# Altium footprint library ThreePhaseMLI.PcbLib: 17 footprints (part 1 of 2)
Each footprint in its own frame and in the unit in brackets; x right, y up, seen from the top. Pads: shape width x height; smd on the part's side, far side on the other; paste and mask are expansions set on the pad; w line width, h text height; cw(c..) or ccw(c..) is an arc to the next point about the centre after c.
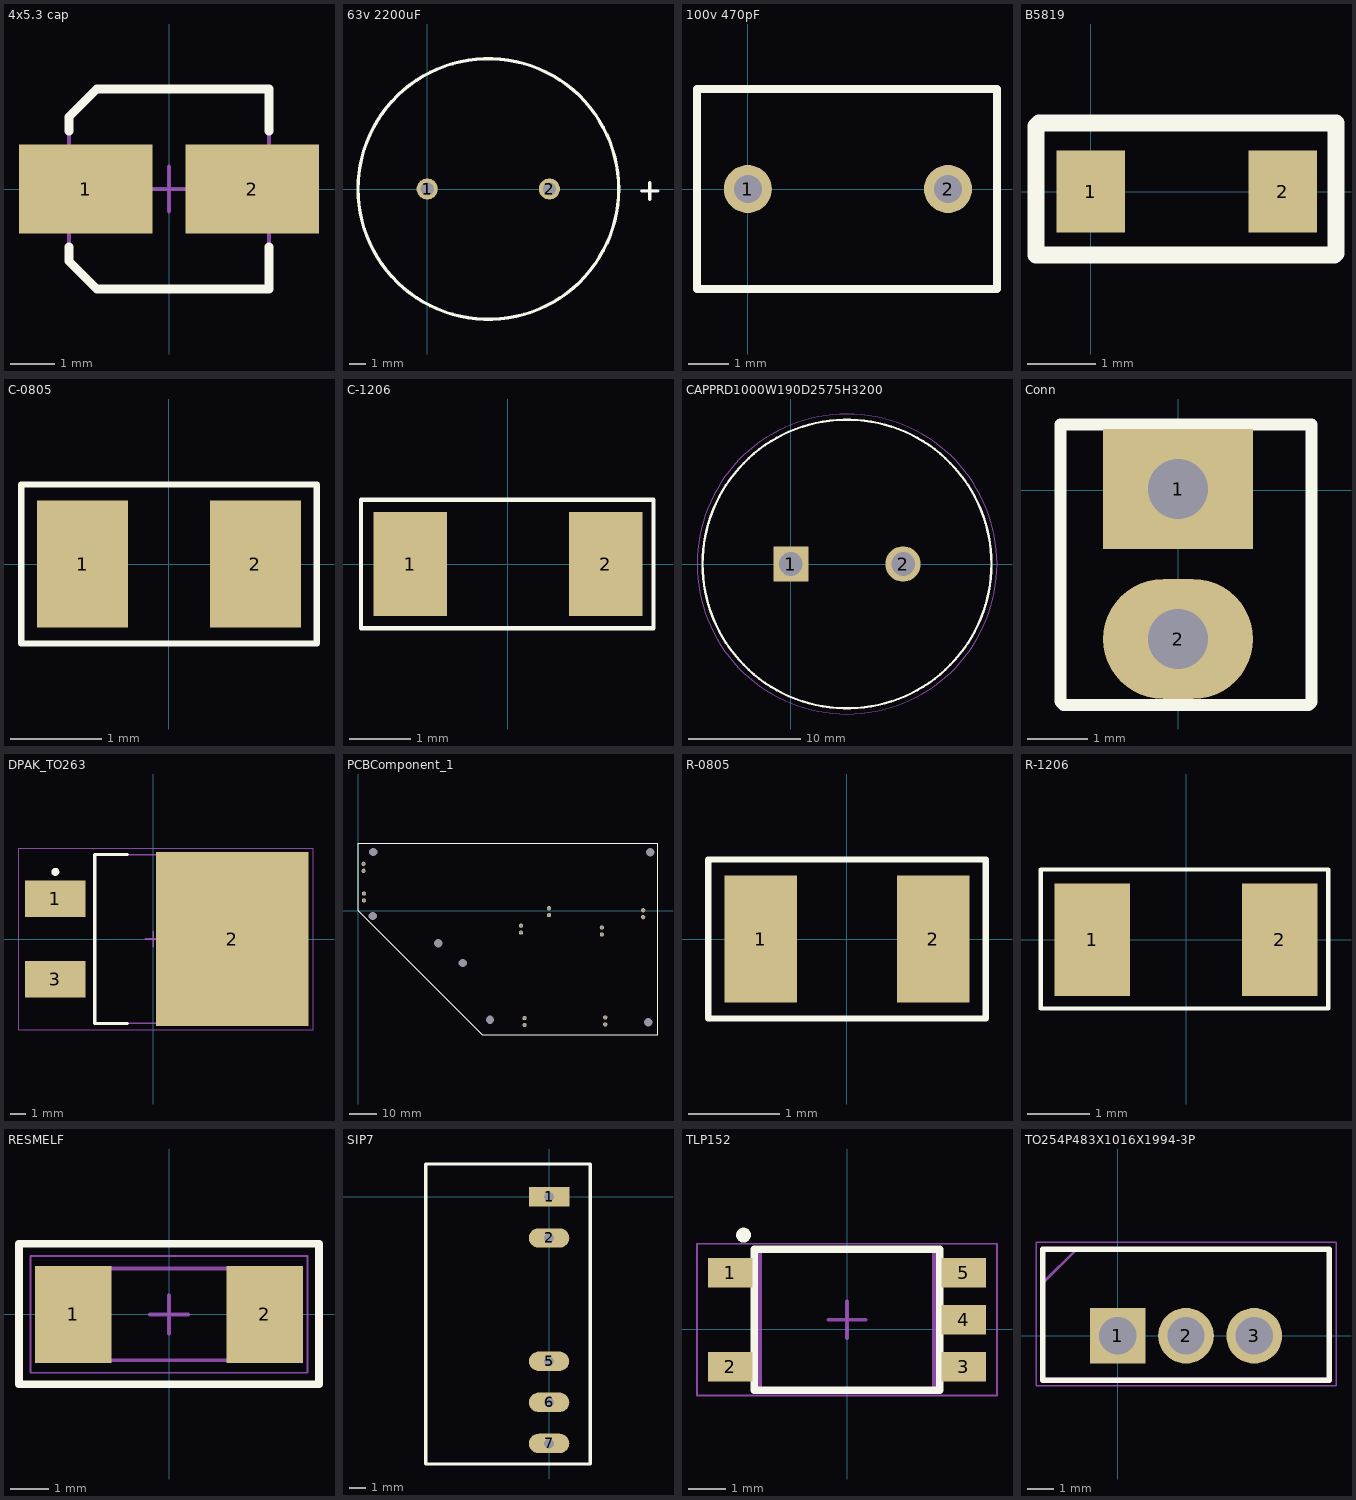
[diagram p0: the footprints below, top view; thin cyan lines are the x and y axes]

## 4x5.3 cap [mm]
height 5.5
pads (2):
  rect 3x2 smd: 1(-1.875,0) 2(1.875,0)
Top Overlay:
  lines w0.2: -2.25,-1.3 -2.25,-1.625 -1.625,-2.25 2.25,-2.25 2.25,-1.3 ; -2.25,1.3 -2.25,1.625 -1.625,2.25 2.25,2.25 2.25,1.3
Assembly Top:
  lines w0.1: -2.25,-1.625 -1.625,-2.25 2.25,-2.25 2.25,2.25 -1.625,2.25 -2.25,1.625 -2.25,-1.625
Courtyard Top:
  lines w0.1: -0.5,0 0.5,0 ; 0,-0.5 0,0.5
3D body "User Library-4x5_4.step": height 5.71, standoff 0.01, extent -2.633,-2.15 2.667,2.15

## 63v 2200uF [mm]
pads (2):
  round 1.3 hole 0.8: 1(0,0) 2(7.5,0)
Top Overlay:
  circle w0.2: c3.75,0 r8
  lines w0.2: 13.147,-0.127 14.163,-0.127 ; 13.655,-0.635 13.655,0.381
3D body "User Library-CE_R300_D650_H1000.step": height 26.11, standoff -2.79, extent -4.44,-8.25 12.06,8.249

## 100v 470pF [mm]
pads (2):
  round 1.2 hole 0.7: 1(0,0) 2(5,0)
Top Overlay:
  lines w0.2: -1.27,-2.5 0,-2.5 5,-2.5 6.223,-2.5 6.223,2.5 5,2.5 0,2.5 -1.27,2.5 -1.27,-2.5
3D body "User Library-CPLP5mm5v4.step": height 7, standoff -2.6, extent -1.06,-2.7 6.14,2.7

## B5819 [mm]
pads (2):
  rect 1x1.2 smd: 1(0,0) 2(2.8,0)
Top Overlay:
  lines w0.254: -0.8,-0.925 -0.8,0.95 -0.75,1 3.575,1 3.575,-0.9 3.55,-0.925 -0.8,-0.925
3D body "CircuitWorks-SOD123.step": height 1.28, standoff 0.01, extent -0.45,-0.725 3.25,0.875

## C-0805 [mm]
pads (2):
  rect 1x1.4 smd: 1(-0.95,0) 2(0.95,0)
Top Overlay:
  lines w0.07: -1.625,-0.875 -0.391,-0.875 0.416,-0.875 1.625,-0.875 1.625,0.875 -1.625,0.875 -1.625,0.413 -1.625,-0.875
3D body "User Library-CAPC2013X10.STEP": height 1.01, standoff 0.01, extent -1,-0.625 1,0.625

## C-1206 [mm]
pads (2):
  rect 1.2x1.7 smd: 1(-1.6,0) 2(1.6,0)
Top Overlay:
  lines w0.07: -2.4,-1.05 -2.4,1.05 2.375,1.05 2.375,0.692 2.375,0.556 2.375,-0.531 2.375,-1.05 -2.4,-1.05
3D body "User Library-CAPC3216X10.STEP": height 1, standoff 0, extent -1.6,-0.8 1.6,0.8

## CAPPRD1000W190D2575H3200 [mm]
pads (2):
  rect 3.15x3.15 hole 2.1: 1(0,0)
  round 3.15 hole 2.1: 2(10,0)
Top Overlay:
  circle w0.2: c5,0 r12.875
Mechanical 13:
  circle w0.1: c5,0 r12.875
Mechanical 15:
  circle w0.05: c5,0 r13.375
3D body "LGW2E391MELA30.stp": height 32, standoff -10, extent -8.25,-13.246 18.25,13.246

## Conn [mm]
pads (2):
  rect 2.5x2 hole 1: 1(0,0.025)
  oval 2.5x2 hole 1: 2(0,-2.475)
Top Overlay:
  lines w0.2: -1.965,-3.52 -1.91,-3.575 2.175,-3.575 2.225,-3.525 2.225,1.1 -1.965,1.1 -1.965,-3.52
3D body: height 1.4, standoff -1.4, extent -5,-0.775 -5,-0.775
3D body "User Library-Header1x2.STEP": height 8.15, standoff -2.83, extent -1.24,-3.74 1.3,1.34

## DPAK_TO263 [mm] "D2-PAK, 3-Pads, Body 7.93x8.70mm (max), IPC Medium Density"
height 4.8
pads (3):
  rect 3.81x2.32 smd: 1(-6.2,2.54) 3(-6.2,-2.54)
  rect 9.65x11 smd: 2(5,0)
Top Overlay:
  circle w0.25: c-6.2,4.25 r0.125
  lines w0.2: -1.625,-5.35 -3.7,-5.35 -3.7,5.35 -1.625,5.35
Assembly Top:
  lines w0.1: -3.7,-5.325 -3.7,5.325 5.95,5.325 5.95,-5.325 -3.7,-5.325
Courtyard Top:
  lines w0.05: -8.5,-5.75 -8.5,5.75 10.125,5.75 10.125,-5.75 -8.5,-5.75
  lines w0.1: -0.5,0 0.5,0 ; 0,-0.5 0,0.5
3D body "User Library-TO263-3S.STEP": height 4.81, standoff 0.01, extent -7.515,-4.975 8.155,5.025

## PCBComponent_1 [mm]
pads (23):
  round 1.524 hole 1: 1(2.025,14.425) 1(2.025,16.925) 2(2.15,3.725) 2(2.15,6.225) 3(58.791,-5.375) 4(58.791,-7.875) 5(60.075,-38.7) 6(60.075,-41.2) 7(87.95,-6.05) 8(87.954,-8.55) 9(89.175,-38.475) 10(89.175,-40.975) 11(68.9,-1.55) 11(68.9,0.95) 12(102.85,-2.3) 12(102.85,0.2)
  round 1.524 hole 3: 15(5.3,-1.85) 15(5.525,21.225) 15(28.9,-11.75) 15(37.75,-18.8) 15(47.625,-39.35) 15(104.725,-40.2) 15(105.375,21.125)
Top Overlay:
  lines w0.025: 0,0 44.75,-44.75 108.2,-44.75 108.2,24.4 0,24.4 0,0
3D body "ThreePhaseMLI.step": height 32, standoff -13.72, extent 0.004,-44.862 108.204,24.288

## R-0805 [mm]
pads (2):
  rect 0.8x1.4 smd: 1(-0.95,0) 2(0.95,0)
Top Overlay:
  lines w0.07: -1.525,-0.875 1.525,-0.875 1.525,0.875 -1.525,0.875 -1.525,-0.875
3D body "User Library-CR2012-0805.STEP": height 0.56, standoff -0.04, extent -1,-0.625 1,0.625

## R-1206 [mm]
pads (2):
  rect 1.2x1.8 smd: 1(-1.5,0) 2(1.5,0)
Top Overlay:
  lines w0.07: -0.275,-1.1 2.275,-1.1 ; -0.275,-1.1 -2.325,-1.1 -2.325,0.625 -2.325,1.125 -1.175,1.125 1.125,1.125 2.275,1.125 2.275,-1.1 ; -0.275,-1.1 2.275,-1.1
3D body "User Library-CR3216-1206.step": height 0.56, standoff -0.04, extent -1.6,-0.775 1.6,0.825

## RESMELF [mm] "MELF Resistor, 2-Leads, Body 5.85x2.30mm, IPC Medium Density"
height 2.4
pads (2):
  rect 2x2.55 smd: 1(-2.5,0) 2(2.5,0)
Top Overlay:
  lines w0.2: -3.925,-1.825 -3.925,1.85 -1.572,1.85 -0.191,1.85 2.082,1.85 ; -3.9,-1.825 -1.2,-1.825 3.925,-1.825 3.925,1.85 ; 2.082,1.85 3.925,1.85 ; 2.082,1.85 3.925,1.85
Assembly Top:
  lines w0.1: -2.95,-1.2 2.95,-1.2 2.95,1.2 -2.95,1.2 -2.95,-1.2
Courtyard Top:
  lines w0.05: -3.625,-1.525 3.625,-1.525 3.625,1.525 -3.625,1.525 -3.625,-1.525
  lines w0.1: -0.5,0 0.5,0 ; 0,-0.5 0,0.5
3D body: height 2.39, standoff 0, extent 2.4,-1.2 2.95,1.195
3D body: height 2.39, standoff 0, extent -2.95,-1.2 -2.4,1.195
3D body "User Library-MMB0207_102K.STEP": height 2.4, standoff 0, extent -2.9,-1.2 2.9,1.2

## SIP7 [mm]
pads (5):
  rect 2.5x1.2 hole 0.6: 1(0,0)
  oval 2.5x1.2 hole 0.6: 2(0,-2.54) 5(0,-10.16) 6(0,-12.7) 7(0,-15.24)
Top Overlay:
  lines w0.2: -7.616,-16.51 -7.616,2.032 2.54,2.032 2.54,-16.51 -7.616,-16.51
3D body "mps_dcdc_mgj2d_sc_a.step": height 11.66, standoff -4.94, extent -7.239,-17.243 2.581,2.257

## TLP152 [mm] "SOTFL, 5-Leads, Body 3.75x7.20mm, Pitch 1.27mm, IPC Medium Density"
height 2.2
pads (5):
  rect 1.2x0.8 smd: 1(-3.15,1.524) 2(-3.15,-1.016) 3(3.15,-1.016) 4(3.15,0.254) 5(3.15,1.524)
Top Overlay:
  lines w0.2: -2.5,-1.646 -2.5,2.154 2.5,2.154 2.5,-1.646 -2.5,-1.646
  lines w0.25: -2.72,2.538 cw(c-2.794,2.54) -2.72,2.547
Assembly Top:
  lines w0.1: -2.35,-1.646 2.35,-1.646 2.35,2.154 -2.35,2.154 -2.35,-1.646
Courtyard Top:
  lines w0.05: -4.05,-1.796 4.05,-1.796 4.05,2.304 -4.05,2.304 -4.05,-1.796
  lines w0.1: -0.5,0.254 0.5,0.254 ; 0,-0.246 0,0.754
3D body "User Library-TLP-152-1.STEP": height 2.11, standoff 0.01, extent -3.393,-1.651 3.383,2.149

## TO254P483X1016X1994-3P [mm]
pads (3):
  rect 2.07x2.07 hole 1.38: 1(0,0)
  round 2.07 hole 1.38: 2(2.54,0) 3(5.08,0)
Top Overlay:
  lines w0.2: -2.795,-1.65 7.874,-1.65 7.874,3.225 -2.795,3.225 -2.795,-1.65
Mechanical 13:
  lines w0.1: -2.795,1.955 -1.525,3.225 ; -2.795,-1.605 7.875,-1.605 7.875,3.225 -2.795,3.225 -2.795,-1.605
Mechanical 15:
  lines w0.05: -3.045,-1.855 8.125,-1.855 8.125,3.475 -3.045,3.475 -3.045,-1.855
3D body "User Library-IRF1607 Transistors MOSFET N-Channel TO-220AB.step": height 19.19, standoff -13.73, extent -2.593,-1.665 7.673,2.54